# Altium schematic symbol library PAL.SCHLIB: 138 symbols (part 2 of 2)
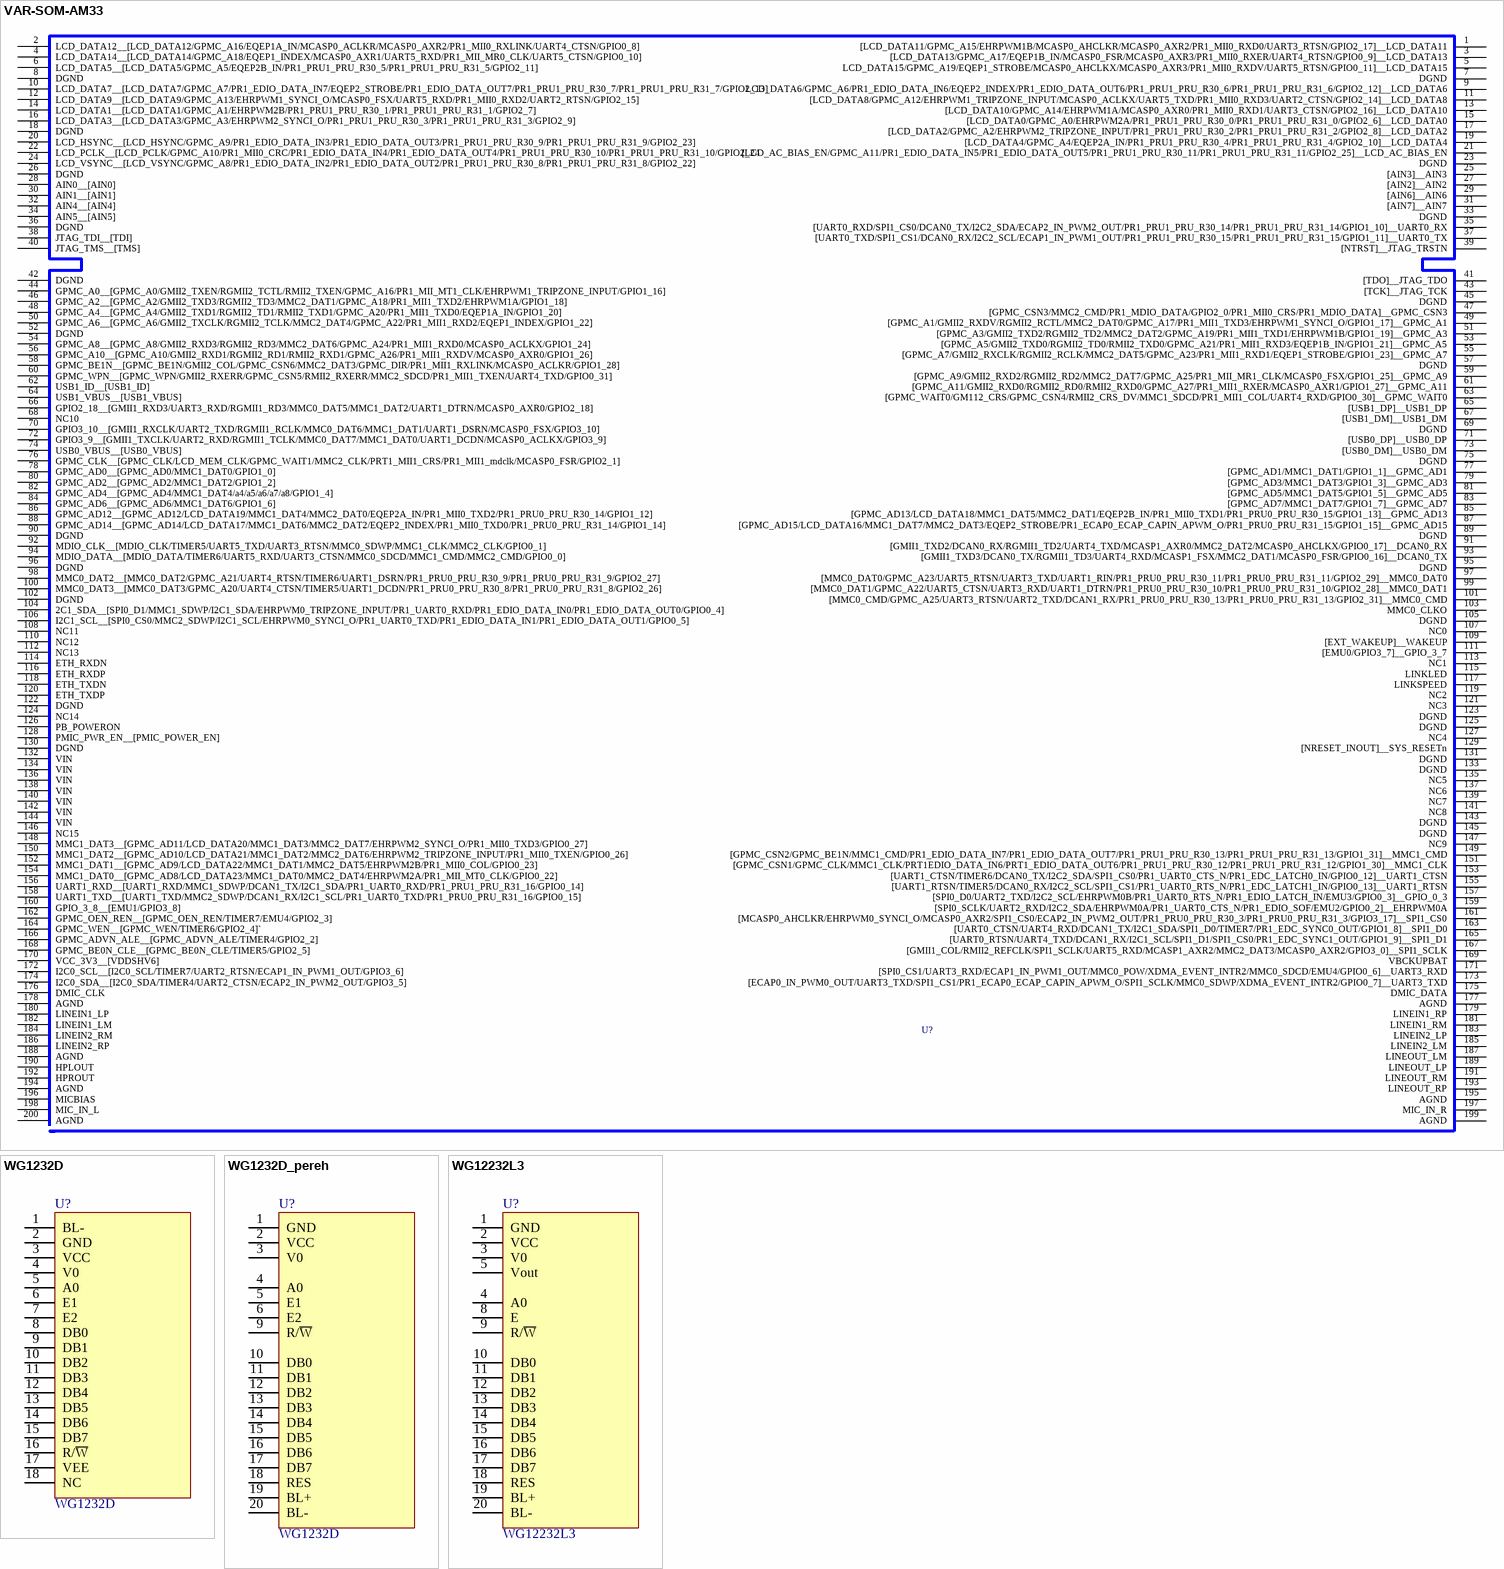
[diagram p9: symbols VAR-SOM-AM33 to WG12232L3]

## VAR-SOM-AM33
designator U?
pins: 1 [LCD_DATA11/GPMC_A15/EHRPWM1B/MCASP0_AHCLKR/MCASP0_AXR2/PR1_MII0_RXD0/UART3_RTSN/GPIO2_17]__LCD_DATA11, 2 LCD_DATA12__[LCD_DATA12/GPMC_A16/EQEP1A_IN/MCASP0_ACLKR/MCASP0_AXR2/PR1_MII0_RXLINK/UART4_CTSN/GPIO0_8], 3 [LCD_DATA13/GPMC_A17/EQEP1B_IN/MCASP0_FSR/MCASP0_AXR3/PR1_MII0_RXER/UART4_RTSN/GPIO0_9]__LCD_DATA13, 4 LCD_DATA14__[LCD_DATA14/GPMC_A18/EQEP1_INDEX/MCASP0_AXR1/UART5_RXD/PR1_MII_MR0_CLK/UART5_CTSN/GPIO0_10], 5 LCD_DATA15/GPMC_A19/EQEP1_STROBE/MCASP0_AHCLKX/MCASP0_AXR3/PR1_MII0_RXDV/UART5_RTSN/GPIO0_11]__LCD_DATA15, 6 LCD_DATA5__[LCD_DATA5/GPMC_A5/EQEP2B_IN/PR1_PRU1_PRU_R30_5/PR1_PRU1_PRU_R31_5/GPIO2_11], 7 DGND, 8 DGND, 9 LCD_DATA6/GPMC_A6/PR1_EDIO_DATA_IN6/EQEP2_INDEX/PR1_EDIO_DATA_OUT6/PR1_PRU1_PRU_R30_6/PR1_PRU1_PRU_R31_6/GPIO2_12]__LCD_DATA6, 10 LCD_DATA7__[LCD_DATA7/GPMC_A7/PR1_EDIO_DATA_IN7/EQEP2_STROBE/PR1_EDIO_DATA_OUT7/PR1_PRU1_PRU_R30_7/PR1_PRU1_PRU_R31_7/GPIO2_13], 11 [LCD_DATA8/GPMC_A12/EHRPWM1_TRIPZONE_INPUT/MCASP0_ACLKX/UART5_TXD/PR1_MII0_RXD3/UART2_CTSN/GPIO2_14]__LCD_DATA8, 12 LCD_DATA9__[LCD_DATA9/GPMC_A13/EHRPWM1_SYNCI_O/MCASP0_FSX/UART5_RXD/PR1_MII0_RXD2/UART2_RTSN/GPIO2_15], 13 [LCD_DATA10/GPMC_A14/EHRPWM1A/MCASP0_AXR0/PR1_MII0_RXD1/UART3_CTSN/GPIO2_16]__LCD_DATA10, 14 LCD_DATA1__[LCD_DATA1/GPMC_A1/EHRPWM2B/PR1_PRU1_PRU_R30_1/PR1_PRU1_PRU_R31_1/GPIO2_7], 15 [LCD_DATA0/GPMC_A0/EHRPWM2A/PR1_PRU1_PRU_R30_0/PR1_PRU1_PRU_R31_0/GPIO2_6]__LCD_DATA0, 16 LCD_DATA3__[LCD_DATA3/GPMC_A3/EHRPWM2_SYNCI_O/PR1_PRU1_PRU_R30_3/PR1_PRU1_PRU_R31_3/GPIO2_9], 17 [LCD_DATA2/GPMC_A2/EHRPWM2_TRIPZONE_INPUT/PR1_PRU1_PRU_R30_2/PR1_PRU1_PRU_R31_2/GPIO2_8]__LCD_DATA2, 18 DGND, 19 [LCD_DATA4/GPMC_A4/EQEP2A_IN/PR1_PRU1_PRU_R30_4/PR1_PRU1_PRU_R31_4/GPIO2_10]__LCD_DATA4, 20 LCD_HSYNC__[LCD_HSYNC/GPMC_A9/PR1_EDIO_DATA_IN3/PR1_EDIO_DATA_OUT3/PR1_PRU1_PRU_R30_9/PR1_PRU1_PRU_R31_9/GPIO2_23], 21 [LCD_AC_BIAS_EN/GPMC_A11/PR1_EDIO_DATA_IN5/PR1_EDIO_DATA_OUT5/PR1_PRU1_PRU_R30_11/PR1_PRU1_PRU_R31_11/GPIO2_25]__LCD_AC_BIAS_EN, 22 LCD_PCLK__[LCD_PCLK/GPMC_A10/PR1_MII0_CRC/PR1_EDIO_DATA_IN4/PR1_EDIO_DATA_OUT4/PR1_PRU1_PRU_R30_10/PR1_PRU1_PRU_R31_10/GPIO2_24, 23 DGND, 24 LCD_VSYNC__[LCD_VSYNC/GPMC_A8/PR1_EDIO_DATA_IN2/PR1_EDIO_DATA_OUT2/PR1_PRU1_PRU_R30_8/PR1_PRU1_PRU_R31_8/GPIO2_22], 25 [AIN3]__AIN3, 26 DGND, 27 [AIN2]__AIN2, 28 AIN0__[AIN0], 29 [AIN6]__AIN6, 30 AIN1__[AIN1], 31 [AIN7]__AIN7, 32 AIN4__[AIN4], 33 DGND, 34 AIN5__[AIN5], 35 [UART0_RXD/SPI1_CS0/DCAN0_TX/I2C2_SDA/ECAP2_IN_PWM2_OUT/PR1_PRU1_PRU_R30_14/PR1_PRU1_PRU_R31_14/GPIO1_10]__UART0_RX, 36 DGND, 37 [UART0_TXD/SPI1_CS1/DCAN0_RX/I2C2_SCL/ECAP1_IN_PWM1_OUT/PR1_PRU1_PRU_R30_15/PR1_PRU1_PRU_R31_15/GPIO1_11]__UART0_TX, 38 JTAG_TDI__[TDI], 39 [NTRST]__JTAG_TRSTN, 40 JTAG_TMS__[TMS], 41 [TDO]__JTAG_TDO, 42 DGND, 43 [TCK]__JTAG_TCK, 44 GPMC_A0__[GPMC_A0/GMII2_TXEN/RGMII2_TCTL/RMII2_TXEN/GPMC_A16/PR1_MII_MT1_CLK/EHRPWM1_TRIPZONE_INPUT/GPIO1_16], 45 DGND, 46 GPMC_A2__[GPMC_A2/GMII2_TXD3/RGMII2_TD3/MMC2_DAT1/GPMC_A18/PR1_MII1_TXD2/EHRPWM1A/GPIO1_18], 47 [GPMC_CSN3/MMC2_CMD/PR1_MDIO_DATA/GPIO2_0/PR1_MII0_CRS/PR1_MDIO_DATA]__GPMC_CSN3, 48 GPMC_A4__[GPMC_A4/GMII2_TXD1/RGMII2_TD1/RMII2_TXD1/GPMC_A20/PR1_MII1_TXD0/EQEP1A_IN/GPIO1_20], 49 [GPMC_A1/GMII2_RXDV/RGMII2_RCTL/MMC2_DAT0/GPMC_A17/PR1_MII1_TXD3/EHRPWM1_SYNCI_O/GPIO1_17]__GPMC_A1, 50 GPMC_A6__[GPMC_A6/GMII2_TXCLK/RGMII2_TCLK/MMC2_DAT4/GPMC_A22/PR1_MII1_RXD2/EQEP1_INDEX/GPIO1_22], 51 [GPMC_A3/GMII2_TXD2/RGMII2_TD2/MMC2_DAT2/GPMC_A19/PR1_MII1_TXD1/EHRPWM1B/GPIO1_19]__GPMC_A3, 52 DGND, 53 [GPMC_A5/GMII2_TXD0/RGMII2_TD0/RMII2_TXD0/GPMC_A21/PR1_MII1_RXD3/EQEP1B_IN/GPIO1_21]__GPMC_A5, 54 GPMC_A8__[GPMC_A8/GMII2_RXD3/RGMII2_RD3/MMC2_DAT6/GPMC_A24/PR1_MII1_RXD0/MCASP0_ACLKX/GPIO1_24], 55 [GPMC_A7/GMII2_RXCLK/RGMII2_RCLK/MMC2_DAT5/GPMC_A23/PR1_MII1_RXD1/EQEP1_STROBE/GPIO1_23]__GPMC_A7, 56 GPMC_A10__[GPMC_A10/GMII2_RXD1/RGMII2_RD1/RMII2_RXD1/GPMC_A26/PR1_MII1_RXDV/MCASP0_AXR0/GPIO1_26], 57 DGND, 58 GPMC_BE1N__[GPMC_BE1N/GMII2_COL/GPMC_CSN6/MMC2_DAT3/GPMC_DIR/PR1_MII1_RXLINK/MCASP0_ACLKR/GPIO1_28], 59 [GPMC_A9/GMII2_RXD2/RGMII2_RD2/MMC2_DAT7/GPMC_A25/PR1_MII_MR1_CLK/MCASP0_FSX/GPIO1_25]__GPMC_A9, 60 GPMC_WPN__[GPMC_WPN/GMII2_RXERR/GPMC_CSN5/RMII2_RXERR/MMC2_SDCD/PR1_MII1_TXEN/UART4_TXD/GPIO0_31], 61 [GPMC_A11/GMII2_RXD0/RGMII2_RD0/RMII2_RXD0/GPMC_A27/PR1_MII1_RXER/MCASP0_AXR1/GPIO1_27]__GPMC_A11, 62 USB1_ID__[USB1_ID], 63 [GPMC_WAIT0/GM112_CRS/GPMC_CSN4/RMII2_CRS_DV/MMC1_SDCD/PR1_MII1_COL/UART4_RXD/GPIO0_30]__GPMC_WAIT0, 64 USB1_VBUS__[USB1_VBUS], 65 [USB1_DP]__USB1_DP, 66 GPIO2_18__[GMII1_RXD3/UART3_RXD/RGMII1_RD3/MMC0_DAT5/MMC1_DAT2/UART1_DTRN/MCASP0_AXR0/GPIO2_18], 67 [USB1_DM]__USB1_DM, 68 NC10, 69 DGND, 70 GPIO3_10__[GMII1_RXCLK/UART2_TXD/RGMII1_RCLK/MMC0_DAT6/MMC1_DAT1/UART1_DSRN/MCASP0_FSX/GPIO3_10], 71 [USB0_DP]__USB0_DP, 72 GPIO3_9__[GMII1_TXCLK/UART2_RXD/RGMII1_TCLK/MMC0_DAT7/MMC1_DAT0/UART1_DCDN/MCASP0_ACLKX/GPIO3_9], 73 [USB0_DM]__USB0_DM, 74 USB0_VBUS__[USB0_VBUS], 75 DGND, 76 GPMC_CLK__[GPMC_CLK/LCD_MEM_CLK/GPMC_WAIT1/MMC2_CLK/PRT1_MII1_CRS/PR1_MII1_mdclk/MCASP0_FSR/GPIO2_1], 77 [GPMC_AD1/MMC1_DAT1/GPIO1_1]__GPMC_AD1, 78 GPMC_AD0__[GPMC_AD0/MMC1_DAT0/GPIO1_0], 79 [GPMC_AD3/MMC1_DAT3/GPIO1_3]__GPMC_AD3, 80 GPMC_AD2__[GPMC_AD2/MMC1_DAT2/GPIO1_2], 81 [GPMC_AD5/MMC1_DAT5/GPIO1_5]__GPMC_AD5, 82 GPMC_AD4__[GPMC_AD4/MMC1_DAT4/a4/a5/a6/a7/a8/GPIO1_4], 83 [GPMC_AD7/MMC1_DAT7/GPIO1_7]__GPMC_AD7, 84 GPMC_AD6__[GPMC_AD6/MMC1_DAT6/GPIO1_6], 85 [GPMC_AD13/LCD_DATA18/MMC1_DAT5/MMC2_DAT1/EQEP2B_IN/PR1_MII0_TXD1/PR1_PRU0_PRU_R30_15/GPIO1_13]__GPMC_AD13, 86 GPMC_AD12__[GPMC_AD12/LCD_DATA19/MMC1_DAT4/MMC2_DAT0/EQEP2A_IN/PR1_MII0_TXD2/PR1_PRU0_PRU_R30_14/GPIO1_12], 87 [GPMC_AD15/LCD_DATA16/MMC1_DAT7/MMC2_DAT3/EQEP2_STROBE/PR1_ECAP0_ECAP_CAPIN_APWM_O/PR1_PRU0_PRU_R31_15/GPIO1_15]__GPMC_AD15, 88 GPMC_AD14__[GPMC_AD14/LCD_DATA17/MMC1_DAT6/MMC2_DAT2/EQEP2_INDEX/PR1_MII0_TXD0/PR1_PRU0_PRU_R31_14/GPIO1_14], 89 DGND, 90 DGND, 91 [GMII1_TXD2/DCAN0_RX/RGMII1_TD2/UART4_TXD/MCASP1_AXR0/MMC2_DAT2/MCASP0_AHCLKX/GPIO0_17]__DCAN0_RX, 92 MDIO_CLK__[MDIO_CLK/TIMER5/UART5_TXD/UART3_RTSN/MMC0_SDWP/MMC1_CLK/MMC2_CLK/GPIO0_1], 93 [GMII1_TXD3/DCAN0_TX/RGMII1_TD3/UART4_RXD/MCASP1_FSX/MMC2_DAT1/MCASP0_FSR/GPIO0_16]__DCAN0_TX, 94 MDIO_DATA__[MDIO_DATA/TIMER6/UART5_RXD/UART3_CTSN/MMC0_SDCD/MMC1_CMD/MMC2_CMD/GPIO0_0], 95 DGND, 96 DGND, 97 [MMC0_DAT0/GPMC_A23/UART5_RTSN/UART3_TXD/UART1_RIN/PR1_PRU0_PRU_R30_11/PR1_PRU0_PRU_R31_11/GPIO2_29]__MMC0_DAT0, 98 MMC0_DAT2__[MMC0_DAT2/GPMC_A21/UART4_RTSN/TIMER6/UART1_DSRN/PR1_PRU0_PRU_R30_9/PR1_PRU0_PRU_R31_9/GPIO2_27], 99 [MMC0_DAT1/GPMC_A22/UART5_CTSN/UART3_RXD/UART1_DTRN/PR1_PRU0_PRU_R30_10/PR1_PRU0_PRU_R31_10/GPIO2_28]__MMC0_DAT1, 100 MMC0_DAT3__[MMC0_DAT3/GPMC_A20/UART4_CTSN/TIMER5/UART1_DCDN/PR1_PRU0_PRU_R30_8/PR1_PRU0_PRU_R31_8/GPIO2_26], 101 [MMC0_CMD/GPMC_A25/UART3_RTSN/UART2_TXD/DCAN1_RX/PR1_PRU0_PRU_R30_13/PR1_PRU0_PRU_R31_13/GPIO2_31]__MMC0_CMD, 102 DGND, 103 MMC0_CLKO, 104 2C1_SDA__[SPI0_D1/MMC1_SDWP/I2C1_SDA/EHRPWM0_TRIPZONE_INPUT/PR1_UART0_RXD/PR1_EDIO_DATA_IN0/PR1_EDIO_DATA_OUT0/GPIO0_4], 105 DGND, 106 I2C1_SCL__[SPI0_CS0/MMC2_SDWP/I2C1_SCL/EHRPWM0_SYNCI_O/PR1_UART0_TXD/PR1_EDIO_DATA_IN1/PR1_EDIO_DATA_OUT1/GPIO0_5], 107 NC0, 108 NC11, 109 [EXT_WAKEUP]__WAKEUP, 110 NC12, 111 [EMU0/GPIO3_7]__GPIO_3_7, 112 NC13, 113 NC1, 114 ETH_RXDN, 115 LINKLED, 116 ETH_RXDP, 117 LINKSPEED, 118 ETH_TXDN, 119 NC2, 120 ETH_TXDP, 121 NC3, 122 DGND, 123 DGND, 124 NC14, 125 DGND, 126 PB_POWERON, 127 NC4, 128 PMIC_PWR_EN__[PMIC_POWER_EN], 129 [NRESET_INOUT]__SYS_RESETn, 130 DGND, 131 DGND, 132 VIN, 133 DGND, 134 VIN, 135 NC5, 136 VIN, 137 NC6, 138 VIN, 139 NC7, 140 VIN, 141 NC8, 142 VIN, 143 DGND, 144 VIN, 145 DGND, 146 NC15, 147 NC9, 148 MMC1_DAT3__[GPMC_AD11/LCD_DATA20/MMC1_DAT3/MMC2_DAT7/EHRPWM2_SYNCI_O/PR1_MII0_TXD3/GPIO0_27], 149 [GPMC_CSN2/GPMC_BE1N/MMC1_CMD/PR1_EDIO_DATA_IN7/PR1_EDIO_DATA_OUT7/PR1_PRU1_PRU_R30_13/PR1_PRU1_PRU_R31_13/GPIO1_31]__MMC1_CMD, 150 MMC1_DAT2__[GPMC_AD10/LCD_DATA21/MMC1_DAT2/MMC2_DAT6/EHRPWM2_TRIPZONE_INPUT/PR1_MII0_TXEN/GPIO0_26], 151 [GPMC_CSN1/GPMC_CLK/MMC1_CLK/PRT1EDIO_DATA_IN6/PRT1_EDIO_DATA_OUT6/PR1_PRU1_PRU_R30_12/PR1_PRU1_PRU_R31_12/GPIO1_30]__MMC1_CLK, 152 MMC1_DAT1__[GPMC_AD9/LCD_DATA22/MMC1_DAT1/MMC2_DAT5/EHRPWM2B/PR1_MII0_COL/GPIO0_23], 153 [UART1_CTSN/TIMER6/DCAN0_TX/I2C2_SDA/SPI1_CS0/PR1_UART0_CTS_N/PR1_EDC_LATCH0_IN/GPIO0_12]__UART1_CTSN, 154 MMC1_DAT0__[GPMC_AD8/LCD_DATA23/MMC1_DAT0/MMC2_DAT4/EHRPWM2A/PR1_MII_MT0_CLK/GPIO0_22], 155 [UART1_RTSN/TIMER5/DCAN0_RX/I2C2_SCL/SPI1_CS1/PR1_UART0_RTS_N/PR1_EDC_LATCH1_IN/GPIO0_13]__UART1_RTSN, 156 UART1_RXD__[UART1_RXD/MMC1_SDWP/DCAN1_TX/I2C1_SDA/PR1_UART0_RXD/PR1_PRU1_PRU_R31_16/GPIO0_14], 157 [SPI0_D0/UART2_TXD/I2C2_SCL/EHRPWM0B/PR1_UART0_RTS_N/PR1_EDIO_LATCH_IN/EMU3/GPIO0_3]__GPIO_0_3, 158 UART1_TXD__[UART1_TXD/MMC2_SDWP/DCAN1_RX/I2C1_SCL/PR1_UART0_TXD/PR1_PRU0_PRU_R31_16/GPIO0_15], 159 [SPI0_SCLK/UART2_RXD/I2C2_SDA/EHRPWM0A/PR1_UART0_CTS_N/PR1_EDIO_SOF/EMU2/GPIO0_2]__EHRPWM0A, 160 GPIO_3_8__[EMU1/GPIO3_8], 161 [MCASP0_AHCLKR/EHRPWM0_SYNCI_O/MCASP0_AXR2/SPI1_CS0/ECAP2_IN_PWM2_OUT/PR1_PRU0_PRU_R30_3/PR1_PRU0_PRU_R31_3/GPIO3_17]__SPI1_CS0, 162 GPMC_OEN_REN__[GPMC_OEN_REN/TIMER7/EMU4/GPIO2_3], 163 [UART0_CTSN/UART4_RXD/DCAN1_TX/I2C1_SDA/SPI1_D0/TIMER7/PR1_EDC_SYNC0_OUT/GPIO1_8]__SPI1_D0, 164 GPMC_WEN__[GPMC_WEN/TIMER6/GPIO2_4]`, 165 [UART0_RTSN/UART4_TXD/DCAN1_RX/I2C1_SCL/SPI1_D1/SPI1_CS0/PR1_EDC_SYNC1_OUT/GPIO1_9]__SPI1_D1, 166 GPMC_ADVN_ALE__[GPMC_ADVN_ALE/TIMER4/GPIO2_2], 167 [GMII1_COL/RMII2_REFCLK/SPI1_SCLK/UART5_RXD/MCASP1_AXR2/MMC2_DAT3/MCASP0_AXR2/GPIO3_0]__SPI1_SCLK, 168 GPMC_BE0N_CLE__[GPMC_BE0N_CLE/TIMER5/GPIO2_5], 169 VBCKUPBAT, 170 VCC_3V3__[VDDSHV6], 171 [SPI0_CS1/UART3_RXD/ECAP1_IN_PWM1_OUT/MMC0_POW/XDMA_EVENT_INTR2/MMC0_SDCD/EMU4/GPIO0_6]__UART3_RXD, 172 I2C0_SCL__[I2C0_SCL/TIMER7/UART2_RTSN/ECAP1_IN_PWM1_OUT/GPIO3_6], 173 [ECAP0_IN_PWM0_OUT/UART3_TXD/SPI1_CS1/PR1_ECAP0_ECAP_CAPIN_APWM_O/SPI1_SCLK/MMC0_SDWP/XDMA_EVENT_INTR2/GPIO0_7]__UART3_TXD, 174 I2C0_SDA__[I2C0_SDA/TIMER4/UART2_CTSN/ECAP2_IN_PWM2_OUT/GPIO3_5], 175 DMIC_DATA, 176 DMIC_CLK, 177 AGND, 178 AGND, 179 LINEIN1_RP, 180 LINEIN1_LP, 181 LINEIN1_RM, 182 LINEIN1_LM, 183 LINEIN2_LP, 184 LINEIN2_RM, 185 LINEIN2_LM, 186 LINEIN2_RP, 187 LINEOUT_LM, 188 AGND, 189 LINEOUT_LP, 190 HPLOUT, 191 LINEOUT_RM, 192 HPROUT, 193 LINEOUT_RP, 194 AGND, 195 AGND, 196 MICBIAS, 197 MIC_IN_R, 198 MIC_IN_L, 199 AGND, 200 AGND

## WG1232D
designator U?
footprint AG1232G
pins: 1 BL-, 2 GND, 3 VCC, 4 V0, 5 A0, 6 E1, 7 E2, 8 DB0, 9 DB1, 10 DB2, 11 DB3, 12 DB4, 13 DB5, 14 DB6, 15 DB7, 16 R/~{W}, 17 VEE, 18 NC

## WG1232D_pereh
designator U?, comment WG1232D
footprint AG1232G
pins: 1 GND, 2 VCC, 3 V0, 4 A0, 5 E1, 6 E2, 9 R/~{W}, 10 DB0, 11 DB1, 12 DB2, 13 DB3, 14 DB4, 15 DB5, 16 DB6, 17 DB7, 18 RES, 19 BL+, 20 BL-

## WG12232L3
designator U?
footprint AG1232G
pins: 1 GND, 2 VCC, 3 V0, 4 A0, 5 Vout, 8 E, 9 R/~{W}, 10 DB0, 11 DB1, 12 DB2, 13 DB3, 14 DB4, 15 DB5, 16 DB6, 17 DB7, 18 RES, 19 BL+, 20 BL-

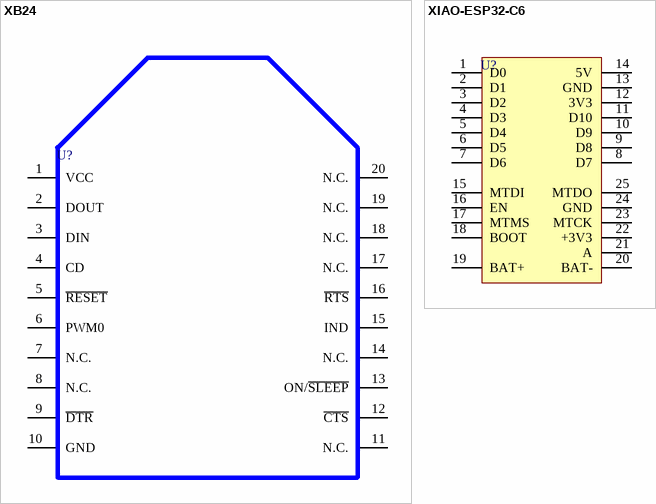
[diagram p8: symbols XB24 to XIAO-ESP32-C6]

## XB24
designator U?
pins: 1 VCC, 2 DOUT, 3 DIN, 4 CD, 5 ~{RESET}, 6 PWM0, 7 N.C., 8 N.C., 9 ~{DTR}, 10 GND, 11 N.C., 12 ~{CTS}, 13 ON/~{SLEEP}, 14 N.C., 15 IND, 16 ~{RTS}, 17 N.C., 18 N.C., 19 N.C., 20 N.C.

## XIAO-ESP32-C6
designator U?
footprint XIAO-ESP32-C6
pins: 1 D0, 2 D1, 3 D2, 4 D3, 5 D4, 6 D5, 7 D6, 8 D7, 9 D8, 10 D9, 11 D10, 12 3V3, 13 GND, 14 5V, 15 MTDI, 16 EN, 17 MTMS, 18 BOOT, 19 BAT+, 20 BAT-, 21 A, 22 +3V3, 23 MTCK, 24 GND, 25 MTDO